# Altium footprint library DIP Crystal.PcbLib: 6 footprints
Each footprint in its own frame and in the unit in brackets; x right, y up, seen from the top. Pads: shape width x height; smd on the part's side, far side on the other; paste and mask are expansions set on the pad; w line width, h text height; cw(c..) or ccw(c..) is an arc to the next point about the centre after c.
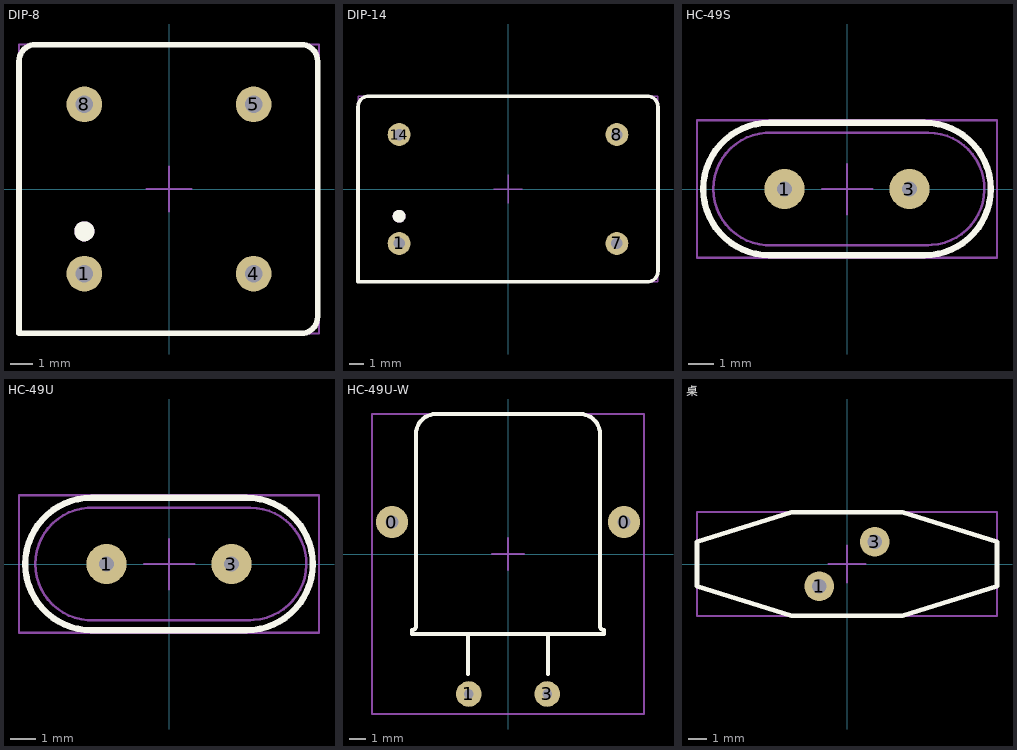
[diagram p0: the footprints below, top view; thin cyan lines are the x and y axes]

## DIP-8 [mm]
height 5.88
pads (4):
  round 1.6 hole 0.8: 1(-3.81,-3.81) 4(3.81,-3.81) 5(3.81,3.81) 8(-3.81,3.81)
Top Overlay:
  circle w0.5: c-3.81,-1.905 r0.2
  lines w0.25: 5.94,-6.5 ccw(c5.94,-5.75) 6.69,-5.75 6.69,5.75 ccw(c5.94,5.75) 5.94,6.5 ; 6,-6.5 -6.75,-6.5 -6.75,5.75 cw(c-6,5.75) -6,6.5 6,6.5
Mechanical 13:
  circle w0.5: c-3.81,-1.905 r0.2
  lines w0.1: 5.94,-6.5 ccw(c5.94,-5.75) 6.69,-5.75 6.69,5.75 ccw(c5.94,5.75) 5.94,6.5 ; 6,-6.5 -6.75,-6.5 -6.75,5.75 cw(c-6,5.75) -6,6.5 6,6.5
Mechanical 15:
  lines w0.1: -1,0 1,0 ; 0,-1 0,1 ; -6.75,-6.5 6.75,-6.5 6.75,6.5 -6.75,6.5 -6.75,-6.5
3D body: height 5.2, standoff -1.4, extent -6.35,-6.35 6.35,6.35

## DIP-14 [mm]
height 5.88
pads (4):
  round 1.6 hole 0.8: 1(-7.62,-3.81) 7(7.62,-3.81) 8(7.62,3.81) 14(-7.62,3.81)
Top Overlay:
  circle w0.5: c-7.62,-1.905 r0.2
  lines w0.25: -10.5,-6.5 -10.5,5.75 cw(c-9.75,5.75) -9.75,6.5 9.75,6.5 cw(c9.75,5.75) 10.5,5.75 10.5,-5.75 cw(c9.75,-5.75) 9.75,-6.5 -10.5,-6.5
Mechanical 13:
  circle w0.5: c-7.62,-1.905 r0.2
  lines w0.1: -10.5,-6.5 9.75,-6.5 ccw(c9.75,-5.75) 10.5,-5.75 10.5,5.75 ccw(c9.75,5.75) 9.75,6.5 -9.75,6.5 ccw(c-9.75,5.75) -10.5,5.75 -10.5,-6.5
Mechanical 15:
  lines w0.1: -1,0 1,0 ; 0,-1 0,1 ; -10.5,-6.5 10.5,-6.5 10.5,6.5 -10.5,6.5 -10.5,-6.5
3D body: height 5.2, standoff -1.4, extent -10.1,-6.35 10.1,6.35

## HC-49S [mm] "HC49 Short Through-hole Mount Footprint"
height 5
pads (2):
  round 1.6 hole 0.6: 1(-2.5,0) 3(2.5,0)
Top Overlay:
  lines w0.25: -3.125,-2.65 3.1,-2.65 ccw(c3.1,0) 3.1,2.65 -3.1,2.65 ccw(c-3.1,0) -3.1,-2.65
Mechanical 13:
  lines w0.1: -3.25,-2.25 3.25,-2.25 ; -3.25,-2.245 cw(c-3.1,0) -3.25,2.245 ; -3.25,2.25 3.25,2.25 cw(c3.25,0.005) 3.399,-2.235 3.25,-2.245
Mechanical 15:
  lines w0.1: -1,0 1,0 ; 0,-1 0,1 ; -6,-2.75 -6,2.75 6,2.75 6,-2.75 -6,-2.75
3D body: height 5, standoff -2.5, extent -5.675,-2.3 5.675,2.35

## HC-49U [mm] "HC49 Through-hole Mount Footprint"
height 5
pads (2):
  round 1.6 hole 0.6: 1(-2.5,0) 3(2.5,0)
Top Overlay:
  lines w0.25: -3.125,-2.65 3.1,-2.65 ccw(c3.1,0) 3.1,2.65 -3.1,2.65 ccw(c-3.1,0) -3.1,-2.65
Mechanical 13:
  lines w0.1: -3.25,-2.25 3.25,-2.25 ; -3.25,-2.245 cw(c-3.1,0) -3.25,2.245 ; -3.25,2.25 3.25,2.25 cw(c3.25,0.005) 3.399,-2.235 3.25,-2.245
Mechanical 15:
  lines w0.1: -1,0 1,0 ; 0,-1 0,1 ; -6,-2.75 6,-2.75 6,2.75 -6,2.75 -6,-2.75
3D body: height 14, standoff -2.5, extent -5.49,-2.25 5.49,2.241

## HC-49U-W [mm] "棠"
height 13.5
pads (4):
  round 2 hole 0.8: 0(-7.25,2) 0(7.25,2)
  round 1.6 hole 0.6: 1(-2.45,-8.75) 3(2.45,-8.75)
Top Overlay:
  lines w0.25: -2.5,-7.5 -2.5,-5 ; 2.5,-7.5 2.5,-5 ; -6,-5 -6,-4.75 ccw(c-6,-4.5) -5.75,-4.5 -5.75,7.5 cw(c-4.5,7.5) -4.5,8.75 4.5,8.75 cw(c4.5,7.5) 5.75,7.5 5.75,-4.5 ccw(c6,-4.5) 6,-4.75 6,-5 -6,-5
Mechanical 13:
  lines w0.1: -2.5,-7.5 -2.5,-5 ; 2.5,-7.5 2.5,-5 ; -6,-5 6,-5 6,-4.75 cw(c6,-4.5) 5.75,-4.5 5.75,7.5 ccw(c4.5,7.5) 4.5,8.75 -4.5,8.75 ccw(c-4.5,7.5) -5.75,7.5 -5.75,-4.5 cw(c-6,-4.5) -6,-4.75 -6,-5
Mechanical 15:
  lines w0.1: -1,0 1,0 ; 0,-1 0,1 ; -8.5,-10 -8.5,8.75 8.5,8.75 8.5,-10 -8.5,-10
3D body: height 4.82, standoff 0.15, extent -5.673,-6.95 5.5,8.51
3D body: height 2.5, standoff -1, extent -2.723,-8.999 -2.225,-8.5
3D body: height 2.75, standoff 2.25, extent -2.724,-8.775 -2.226,-4.275
3D body: height 2.75, standoff 2.25, extent -2.722,-8.999 -2.225,-8.501
3D body: height 2.75, standoff 2.25, extent 2.228,-8.999 2.725,-8.501
3D body: height 2.75, standoff 2.25, extent 2.226,-8.775 2.724,-4.275
3D body: height 2.5, standoff -1, extent 2.227,-8.999 2.725,-8.5

## 桌 [mm]
height 3.4
pads (2):
  round 1.6 hole 0.8: 1(-1.5,-1.2) 3(1.5,1.2)
Top Overlay:
  lines w0.25: -8.1,-1.2 -3,-2.8 3,-2.8 8.1,-1.2 8.1,1.2 3,2.8 -3,2.8 -8.1,1.2 -8.1,-1.2
Mechanical 13:
  lines w0.1: -8.1,-1.2 -8.1,1.2 -3,2.8 3,2.8 8.1,1.2 8.1,-1.2 3,-2.8 -3,-2.8 -8.1,-1.2
Mechanical 15:
  lines w0.1: -1,0 1,0 ; 0,-1 0,1 ; -8.1,-2.8 8.1,-2.8 8.1,2.8 -8.1,2.8 -8.1,-2.8